# Altium footprint library Sektor_LED_Displays.PcbLib: 1 footprints
Each footprint in its own frame and in the unit in brackets; x right, y up, seen from the top. Pads: shape width x height; smd on the part's side, far side on the other; paste and mask are expansions set on the pad; w line width, h text height; cw(c..) or ccw(c..) is an arc to the next point about the centre after c.
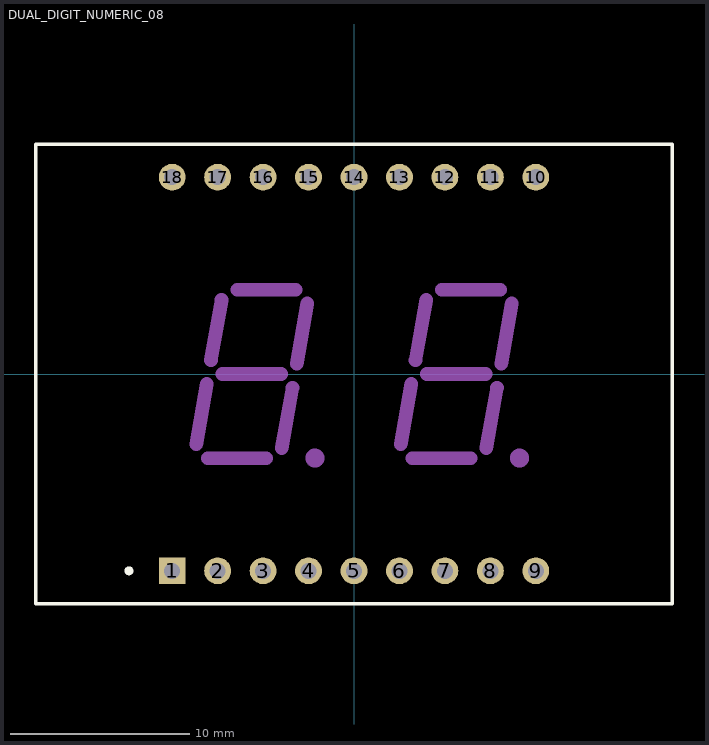
[diagram p0: the footprint, top view; thin cyan lines are the x and y axes]

## DUAL_DIGIT_NUMERIC_08 [mm]
pads (18):
  rect 1.5x1.5 hole 0.9: 1(-10.16,-10.998)
  round 1.5 hole 0.9: 2(-7.62,-10.998) 3(-5.08,-10.998) 4(-2.54,-10.998) 5(0,-10.998) 6(2.54,-10.998) 7(5.08,-10.998) 8(7.62,-10.998) 9(10.16,-10.998) 10(10.16,10.998) 11(7.62,10.998) 12(5.08,10.998) 13(2.54,10.998) 14(0,10.998) 15(-2.54,10.998) 16(-5.08,10.998) 17(-7.62,10.998) 18(-10.16,10.998)
Top Overlay:
  circle w0.25: c-12.573,-10.998 r0.125
  lines w0.2: -17.78,-12.827 -17.78,12.827 17.78,12.827 17.78,-12.827 -17.78,-12.827
Mechanical 1:
  circle w0.86: c9.248,-4.7 r0.1
  circle w0.86: c-2.182,-4.7 r0.1
  lines w0.762: -8.823,-3.935 -8.229,-0.562 ; -8.182,-4.7 -4.907,-4.7 ; -7.994,0.765 -7.401,4.137 ; -7.356,0 -4.074,0 ; -6.526,4.7 -3.248,4.7 ; -4.031,-4.136 -3.438,-0.763 ; -3.203,0.564 -2.61,3.938 ; 2.607,-3.935 3.201,-0.562 ; 3.248,-4.7 6.523,-4.7 ; 3.436,0.765 4.029,4.137 ; 4.074,0 7.356,0 ; 4.904,4.7 8.182,4.7 ; 7.399,-4.136 7.992,-0.763 ; 8.227,0.564 8.82,3.938